# Altium footprint library jetson-orin-baseboard.PcbLib: 71 footprints (part 4 of 5)
Each footprint in its own frame and in the unit in brackets; x right, y up, seen from the top. Pads: shape width x height; smd on the part's side, far side on the other; paste and mask are expansions set on the pad; w line width, h text height; cw(c..) or ccw(c..) is an arc to the next point about the centre after c.
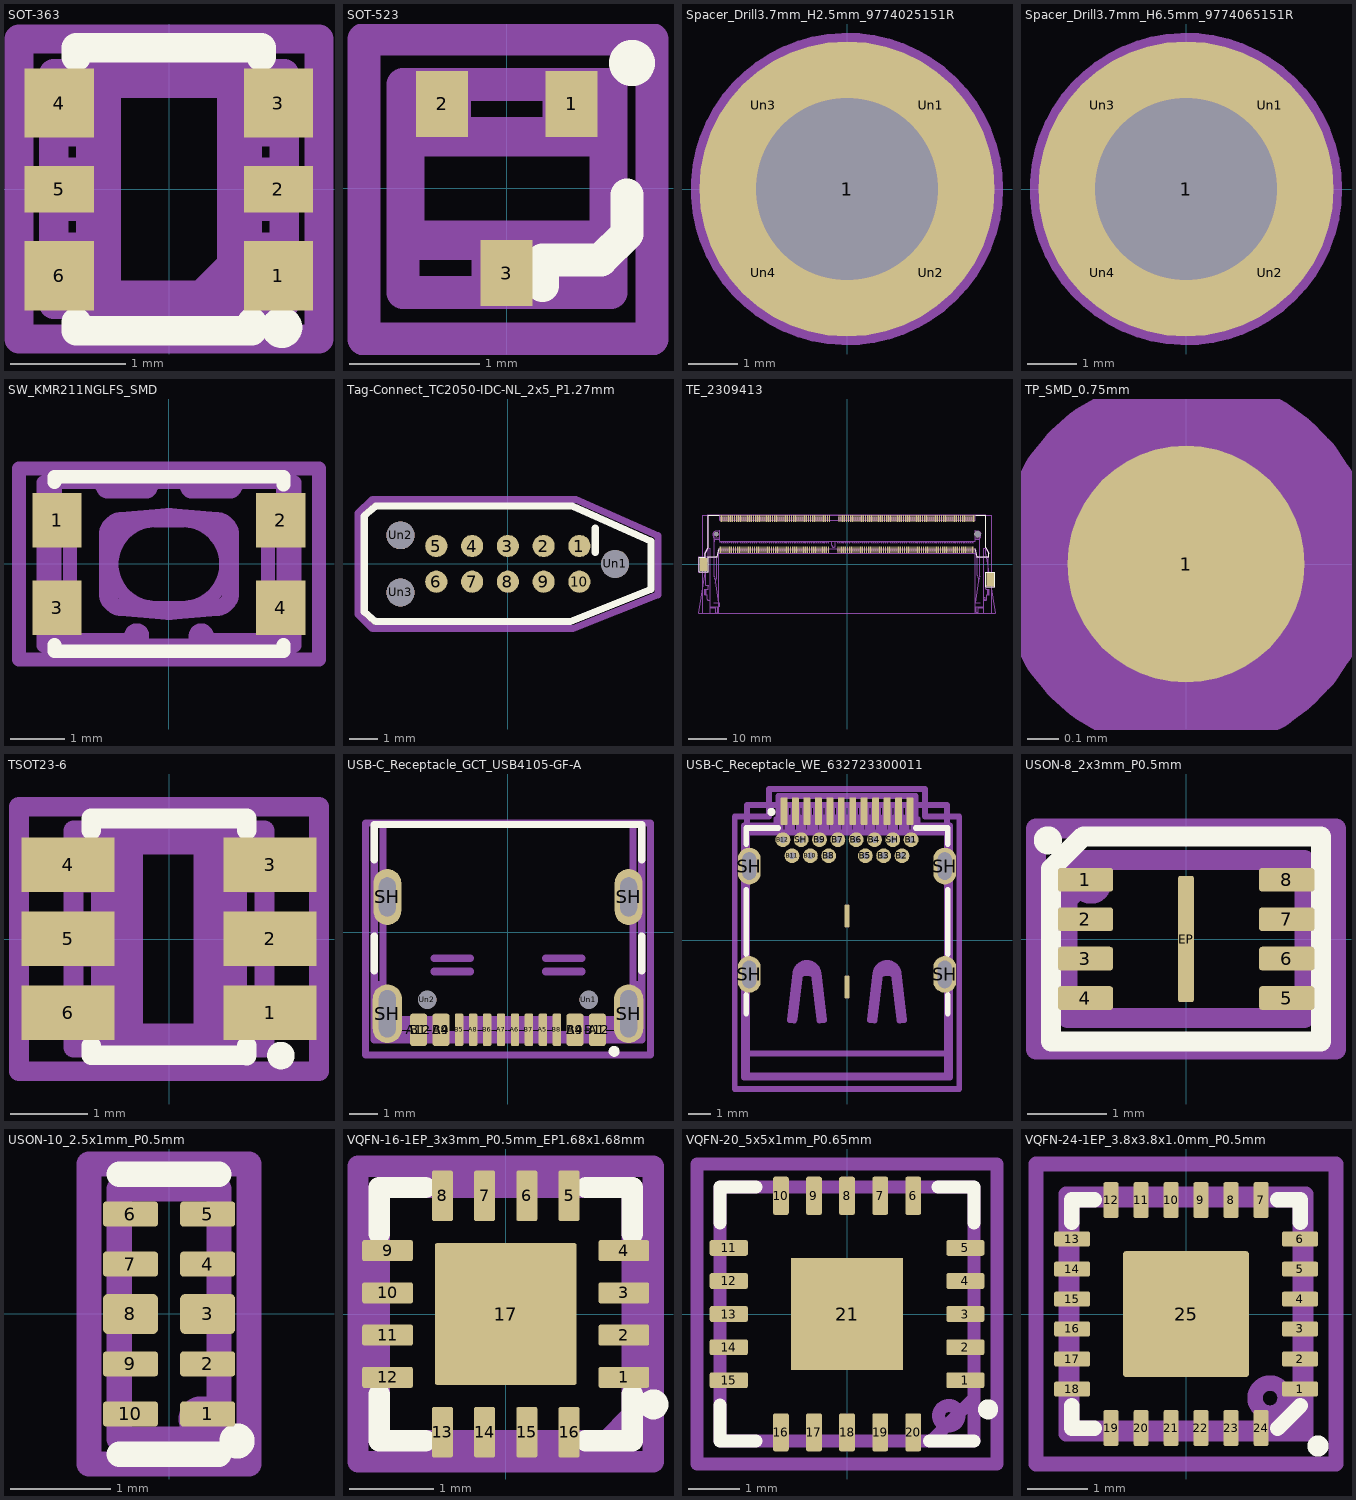
[diagram p3: the footprints below, top view; thin cyan lines are the x and y axes]

## SOT-363 [mm]
pads (6):
  rect 0.6x0.6 smd mask+0: 1(0.948,-0.752) 3(0.948,0.745) 4(-0.951,0.745) 6(-0.951,-0.752)
  rect 0.6x0.4 smd mask+0: 2(0.948,-0.002) 5(-0.951,-0.002)
Top Overlay:
  circle w0.254: c0.978,-1.2 r0.05
  region: 0.94,-1.162 0.924,-1.2 0.94,-1.238 0.978,-1.254 1.016,-1.238 1.032,-1.2 1.016,-1.162 0.978,-1.146
  lines w0.254: -0.803,-1.153 -0.803,-1.228 0.72,-1.228 0.72,-1.153 ; -0.803,1.146 -0.803,1.223 0.8,1.223 0.8,1.146
Mechanical 1:
  lines w0.254: -0.875,-0.804 -0.625,-0.804 -0.625,-0.909 ; -0.875,-0.804 -0.875,-0.502 ; -0.875,-0.804 -0.975,-0.804 -1,-0.804 -1,-0.502 -0.975,-0.502 -0.875,-0.502 ; -0.875,-0.502 -0.625,-0.502 -0.625,-0.152 -0.875,-0.152 ; -0.875,-0.152 -0.875,0.146 ; -0.875,-0.152 -0.975,-0.152 -1,-0.152 -1,0.146 -0.975,0.146 -0.875,0.146 ; -0.875,0.146 -0.625,0.146 -0.625,0.496 -0.875,0.496 ; -0.875,0.496 -0.875,0.798 ; -0.875,0.496 -0.975,0.496 -1,0.496 -1,0.798 -0.975,0.798 -0.875,0.798 ; -0.875,0.798 -0.625,0.798 -0.625,0.903 ; -0.625,-0.909 -0.6,-0.895 ; -0.625,-0.909 -0.532,-1.002 ; -0.625,0.903 -0.532,0.996 ; -0.625,0.903 -0.6,0.889 ; -0.6,-0.895 -0.545,-0.867 ; -0.6,-0.895 -0.6,-0.804 -0.6,-0.502 -0.6,-0.152 -0.6,0.146 -0.6,0.496 -0.6,0.798 -0.6,0.889 ; -0.6,-0.895 -0.519,-0.977 ; -0.6,0.889 -0.519,0.971 ; -0.6,0.889 -0.545,0.861 ; -0.545,-0.867 -0.545,0.861 ; -0.545,-0.867 -0.49,-0.922 ; -0.545,0.861 -0.49,0.916 ; -0.532,-1.002 -0.519,-0.977 ; -0.532,-1.002 0.53,-1.002 ; -0.532,0.996 0.53,0.996 ; -0.532,0.996 -0.519,0.971 ; -0.519,-0.977 -0.49,-0.922 ; -0.519,-0.977 0.517,-0.977 ; -0.519,0.971 0.517,0.971 ; -0.519,0.971 -0.49,0.916 ; -0.49,-0.922 0.488,-0.922 ; -0.49,0.916 0.488,0.916 ; 0.488,-0.922 0.543,-0.867 ; 0.488,-0.922 0.517,-0.977 ; 0.488,0.916 0.543,0.861 ; 0.488,0.916 0.517,0.971 ; 0.517,-0.977 0.598,-0.895 ; 0.517,-0.977 0.53,-1.002 ; 0.517,0.971 0.598,0.889 ; 0.517,0.971 0.53,0.996 ; 0.53,-1.002 0.623,-0.909 ; 0.53,0.996 0.623,0.903 ; 0.543,-0.867 0.598,-0.895 ; 0.543,-0.867 0.543,0.861 ; 0.543,0.861 0.598,0.889 ; 0.598,-0.895 0.623,-0.909 ; 0.598,-0.895 0.598,-0.804 0.598,-0.502 0.598,-0.152 0.598,0.146 0.598,0.496 0.598,0.798 0.598,0.889 ; 0.598,0.889 0.623,0.903 ; 0.623,-0.909 0.623,-0.804 0.873,-0.804 ; 0.623,0.903 0.623,0.798 0.873,0.798 ; 0.873,-0.804 0.973,-0.804 0.998,-0.804 0.998,-0.502 0.973,-0.502 0.873,-0.502 ; 0.873,-0.804 0.873,-0.502 ; 0.873,-0.502 0.623,-0.502 0.623,-0.152 0.873,-0.152 ; 0.873,-0.152 0.973,-0.152 0.998,-0.152 0.998,0.146 0.973,0.146 0.873,0.146 ; 0.873,-0.152 0.873,0.146 ; 0.873,0.146 0.623,0.146 0.623,0.496 0.873,0.496 ; 0.873,0.496 0.973,0.496 0.998,0.496 0.998,0.798 0.973,0.798 0.873,0.798 ; 0.873,0.496 0.873,0.798
Mechanical 5:
  lines w0.254: -1,-1 -1,1 1,1 1,-1 -1,-1
Mechanical 11:
  lines w0.254: 0.1,-1.1 0.68,-0.52 ; -0.68,-1.1 -0.68,1.1 0.68,1.1 0.68,-1.1 -0.68,-1.1
  text "License: Apache-2.0" at -8.815,4.567 h0.7
  text "Author: Antmicro" at -6.985,5.883 h0.7
  text "'.Designator'" at -0.71,3.467 h0.7
Mechanical 16:
  lines w0.254: -1.3,-1.3 -1.3,1.3 1.3,1.3 1.3,-1.3 -1.3,-1.3

## SOT-523 [mm]
pads (3):
  rect 0.4x0.51 smd mask+0: 1(0.5,0.65) 2(-0.498,0.65) 3(0,-0.652)
Top Overlay:
  circle w0.254: c0.965,0.965 r0.05
  region: 0.927,1.003 0.911,0.965 0.927,0.927 0.965,0.911 1.003,0.927 1.019,0.965 1.003,1.003 0.965,1.019
  lines w0.254: 0.277,-0.75 0.277,-0.551 0.725,-0.551 0.927,-0.351 0.927,-0.051
Mechanical 1:
  lines w0.254: -0.787,-0.402 -0.761,-0.375 ; -0.787,-0.402 -0.8,-0.402 -0.8,0.4 -0.787,0.4 ; -0.787,-0.402 -0.143,-0.402 ; -0.787,0.4 -0.598,0.4 ; -0.787,0.4 -0.761,0.373 ; -0.761,-0.375 -0.761,0.373 ; -0.761,-0.375 0.763,-0.375 ; -0.761,0.373 0.763,0.373 ; -0.598,0.4 -0.598,0.524 -0.598,0.539 -0.598,0.563 -0.598,0.8 -0.4,0.8 -0.4,0.563 -0.4,0.539 -0.4,0.524 -0.4,0.4 ; -0.598,0.4 -0.4,0.4 ; -0.4,0.4 0.402,0.4 ; -0.143,-0.402 0.145,-0.402 ; -0.143,-0.402 -0.143,-0.526 -0.143,-0.541 -0.143,-0.565 -0.143,-0.802 0.145,-0.802 0.145,-0.565 0.145,-0.541 0.145,-0.526 0.145,-0.402 ; 0.145,-0.402 0.789,-0.402 ; 0.402,0.4 0.402,0.524 0.402,0.539 0.402,0.563 0.402,0.8 0.6,0.8 0.6,0.563 0.6,0.539 0.6,0.524 0.6,0.4 ; 0.402,0.4 0.6,0.4 ; 0.6,0.4 0.789,0.4 ; 0.763,-0.375 0.763,0.373 ; 0.763,-0.375 0.789,-0.402 ; 0.763,0.373 0.789,0.4 ; 0.789,-0.402 0.802,-0.402 0.802,0.4 0.789,0.4
Mechanical 5:
  lines w0.254: -0.8,-0.802 -0.8,0.8 0.802,0.8 0.802,-0.802 -0.8,-0.802
Mechanical 11:
  circle w0.254: c0.965,0.965 r0.051
  lines w0.254: -0.8,-0.425 -0.8,0.424 0.802,0.424 0.802,-0.276 0.652,-0.425 -0.8,-0.425
  text "'.Designator'" at 0.97,4.357 h0.7
  text "Author: Antmicro" at 0.97,6.741 h0.7
  text "License: Apache-2.0" at 0.97,5.657 h0.7
Mechanical 16:
  lines w0.254: -1.1,-1.16 -1.1,1.15 1.12,1.15 1.12,-1.16 -1.1,-1.16

## Spacer_Drill3.7mm_H2.5mm_9774025151R [mm]
pads (5):
  round 6 hole 3.7 paste-2539.97 mask+0: 1(0,0)
  round 0.62 on Top Paste mask-0.62: Un1(1.7,1.7) Un2(1.7,-1.7) Un3(-1.7,1.7) Un4(-1.7,-1.7)
Top Paste:
  lines w0.2: -2.784,-0.421 -1.95,-0.421 ; -2.784,0.421 -1.95,0.421 ; -0.421,-2.784 -0.421,-1.95 ; -0.421,1.95 -0.421,2.784 ; 0.421,-2.784 0.421,-1.95 ; 0.421,1.95 0.421,2.784 ; 1.95,-0.421 2.784,-0.421 ; 1.95,0.421 2.784,0.421
Mechanical 1:
  circle w0.254: c0,0 r2.55
  circle w0.254: c0,0 r1
Mechanical 5:
  circle w0.254: c0,0 r2.6
Mechanical 11:
  circle w0.254: c0,0 r2.6
  text "Author: Antmicro" at 9.45,8.217 h0.7
  text "'.Designator'" at 9.45,7 h0.7
  text "License: Apache-2.0" at 9.45,9.533 h0.7
Mechanical 16:
  circle w0.254: c0,0 r3.05

## Spacer_Drill3.7mm_H6.5mm_9774065151R [mm]
pads (5):
  round 6 hole 3.7 paste-2539.97 mask+0: 1(0,0)
  round 0.62 on Top Paste mask-0.62: Un1(1.7,1.7) Un2(1.7,-1.7) Un3(-1.7,1.7) Un4(-1.7,-1.7)
Top Paste:
  lines w0.2: -2.784,-0.421 -1.95,-0.421 ; -2.784,0.421 -1.95,0.421 ; -0.421,-2.784 -0.421,-1.95 ; -0.421,1.95 -0.421,2.784 ; 0.421,-2.784 0.421,-1.95 ; 0.421,1.95 0.421,2.784 ; 1.95,-0.421 2.784,-0.421 ; 1.95,0.421 2.784,0.421
Mechanical 1:
  circle w0.254: c0,0 r2.55
  circle w0.254: c0,0 r1
Mechanical 5:
  circle w0.254: c0,0 r2.6
Mechanical 11:
  circle w0.254: c0,0 r2.6
  text "Author: Antmicro" at 9.45,8.217 h0.7
  text "License: Apache-2.0" at 9.45,9.533 h0.7
  text "'.Designator'" at 9.45,7 h0.7
Mechanical 16:
  circle w0.254: c0,0 r3.05

## SW_KMR211NGLFS_SMD [mm]
pads (4):
  rect 0.9x1 smd mask+0: 1(-2.048,0.8) 2(2.05,0.8) 3(-2.048,-0.802) 4(2.05,-0.802)
Top Overlay:
  lines w0.254: -2.1,-1.48 -2.1,-1.601 2.101,-1.601 2.101,-1.48 ; -2.1,1.499 -2.1,1.6 2.101,1.6 ; 2.101,1.459 2.101,1.58
Mechanical 1:
  drawing of 816 lines, arcs and shapes, not listed
Mechanical 5:
  lines w0.254: -2.298,-1.5 -2.298,1.499 2.301,1.499 2.301,-1.5 -2.298,-1.5
Mechanical 10:
  lines w0.254: -2.1,-1.601 -2.1,1.6 2.101,1.6 2.101,-1.601 -2.1,-1.601 ; -0.248,-0.802 cw(c-0.249,-0.001) -0.248,0.8 0.25,0.8 cw(c0.25,-0.001) 0.25,-0.802 -0.248,-0.802
  text "'.Designator'" at -3.15,-4.75 h0.7
  text "Author: Antmicro" at -3.15,-6.017 h0.7
  text "License: Apache-2.0" at -3.15,-7.383 h0.7
Mechanical 15:
  lines w0.254: -2.748,-1.75 -2.748,1.749 2.751,1.749 2.751,-1.75 -2.748,-1.75

## Tag-Connect_TC2050-IDC-NL_2x5_P1.27mm [mil]
pads (13):
  round 31 smd paste-31 mask+0: 1(100,24.96) 2(50,24.96) 3(0,24.96) 4(-49.96,24.96) 5(-99.96,24.96) 6(-99.96,-25) 7(-49.96,-25) 8(0,-25) 9(50,-25) 10(100,-25)
  round 39 hole 39 paste-99999 mask+0: Un1(150,0) Un2(-149.96,39.96) Un3(-149.96,-40)
Top Overlay:
  lines w10: 122.09,15.75 122.09,49.96 ; -200.79,-66.93 -185.04,-80.71 86.61,-80.71 200,-35.43 200,31.5 90.55,80.67 -185.04,80.67 -200.79,66.93 -200.79,-66.93
Mechanical 11:
  text "License: Apache-2.0" at 239.09,357.57 h27.56
  text "'.Designator'" at 239.09,257.83 h27.56
  text "Author: Antmicro" at 239.09,305.73 h27.56
Mechanical 16:
  lines w10: -209.45,-70.87 -188.98,-90.55 90.55,-90.55 209.84,-43.31 209.84,39.37 94.49,90.16 -188.98,90.16 -209.45,70.87 -209.45,-70.87
Mechanical 17:
  text "Z-KEEPOUT 6.35mm" at 83.17,120.57 h13.78

## TE_2309413 [mm]
pads (264):
  rect 0.3x1.75 smd mask+0: 1(33.369,12.026) 2(33.119,3.826) 3(32.869,12.026) 4(32.619,3.826) 5(32.369,12.026) 6(32.119,3.826) 7(31.87,12.026) 8(31.62,3.826) 9(31.37,12.026) 10(31.12,3.826) 11(30.87,12.026) 12(30.62,3.826) 13(30.37,12.026) 14(30.12,3.826) 15(29.87,12.026) 16(29.62,3.826) 17(29.37,12.026) 18(29.12,3.826) 19(28.87,12.026) 20(28.62,3.826) 21(28.37,12.026) 22(28.12,3.826) 23(27.87,12.026) 24(27.62,3.826) 25(27.37,12.026) 26(27.12,3.826) 27(26.87,12.026) 28(26.62,3.826) 29(26.37,12.026) 30(26.12,3.826) 31(25.87,12.026) 32(25.62,3.826) 33(25.37,12.026) 34(25.12,3.826) 35(24.87,12.026) 36(24.62,3.826) 37(24.37,12.026) 38(24.12,3.826) 39(23.87,12.026) 40(23.62,3.826) 41(23.37,12.026) 42(23.12,3.826) 43(22.87,12.026) 44(22.62,3.826) 45(22.37,12.026) 46(22.12,3.826) 47(21.87,12.026) 48(21.62,3.826) 49(21.37,12.026) 50(21.12,3.826) 51(20.87,12.026) 52(20.62,3.826) 53(20.37,12.026) 54(20.12,3.826) 55(19.87,12.026) 56(19.62,3.826) 57(19.37,12.026) 58(19.12,3.826) 59(18.87,12.026) 60(18.62,3.826) 61(18.37,12.026) 62(18.12,3.826) 63(17.87,12.026) 64(17.62,3.826) 65(17.37,12.026) 66(17.12,3.826) 67(16.87,12.026) 68(16.62,3.826) 69(16.37,12.026) 70(16.12,3.826) 71(15.87,12.026) 72(15.62,3.826) 73(15.37,12.026) 74(15.12,3.826) 75(14.87,12.026) 76(14.62,3.826) 77(14.37,12.026) 78(14.12,3.826) 79(13.87,12.026) 80(13.62,3.826) 81(13.37,12.026) 82(13.12,3.826) 83(12.87,12.026) 84(12.62,3.826) 85(12.37,12.026) 86(12.12,3.826) 87(11.87,12.026) 88(11.62,3.826) 89(11.37,12.026) 90(11.12,3.826) 91(10.87,12.026) 92(10.62,3.826) 93(10.37,12.026) 94(10.12,3.826) 95(9.87,12.026) 96(9.62,3.826) 97(9.37,12.026) 98(9.12,3.826) 99(8.87,12.026) 100(8.62,3.826) 101(8.37,12.026) 102(8.12,3.826) 103(7.869,12.026) 104(7.619,3.826) 105(7.369,12.026) 106(7.119,3.826) 107(6.869,12.026) 108(6.619,3.826) 109(6.369,12.026) 110(6.119,3.826) 111(5.869,12.026) 112(5.619,3.826) 113(5.369,12.026) 114(5.12,3.826) 115(4.87,12.026) 116(4.62,3.826) 117(4.37,12.026) 118(4.12,3.826) 119(3.87,12.026) 120(3.62,3.826) 121(3.37,12.026) 122(3.12,3.826) 123(2.87,12.026) 124(2.62,3.826) 125(2.37,12.026) 126(2.12,3.826) 127(1.87,12.026) 128(1.62,3.826) 129(1.37,12.026) 130(1.12,3.826) 131(0.869,12.026) 132(0.619,3.826) 133(0.369,12.026) 134(0.119,3.826) 135(-0.131,12.026) 136(-0.38,3.826) 137(-0.63,12.026) 138(-0.88,3.826) 139(-1.131,12.026) 140(-1.381,3.826) 141(-1.631,12.026) 142(-1.881,3.826) 143(-2.13,12.026) 144(-2.38,3.826) 145(-4.63,12.026) 146(-4.88,3.826) 147(-5.13,12.026) 148(-5.38,3.826) 149(-5.63,12.026) 150(-5.88,3.826) 151(-6.13,12.026) 152(-6.38,3.826) 153(-6.63,12.026) 154(-6.88,3.826) 155(-7.13,12.026) 156(-7.38,3.826) 157(-7.63,12.026) 158(-7.88,3.826) 159(-8.131,12.026) 160(-8.381,3.826) 161(-8.631,12.026) 162(-8.881,3.826) 163(-9.131,12.026) 164(-9.381,3.826) 165(-9.631,12.026) 166(-9.881,3.826) 167(-10.131,12.026) 168(-10.381,3.826) 169(-10.631,12.026) 170(-10.881,3.826) 171(-11.131,12.026) 172(-11.381,3.826) 173(-11.631,12.026) 174(-11.881,3.826) 175(-12.131,12.026) 176(-12.381,3.826) 177(-12.631,12.026) 178(-12.881,3.826) 179(-13.131,12.026) 180(-13.381,3.826) 181(-13.631,12.026) 182(-13.881,3.826) 183(-14.131,12.026) 184(-14.381,3.826) 185(-14.631,12.026) 186(-14.881,3.826) 187(-15.131,12.026) 188(-15.381,3.826) 189(-15.631,12.026) 190(-15.881,3.826) 191(-16.13,12.026) 192(-16.38,3.826) 193(-16.63,12.026) 194(-16.88,3.826) 195(-17.13,12.026) 196(-17.38,3.826) 197(-17.63,12.026) 198(-17.88,3.826) 199(-18.13,12.026) 200(-18.38,3.826) 201(-18.63,12.026) 202(-18.88,3.826) 203(-19.13,12.026) 204(-19.38,3.826) 205(-19.63,12.026) 206(-19.88,3.826) 207(-20.13,12.026) 208(-20.38,3.826) 209(-20.63,12.026) 210(-20.88,3.826) 211(-21.13,12.026) 212(-21.38,3.826) 213(-21.63,12.026) 214(-21.88,3.826) 215(-22.13,12.026) 216(-22.38,3.826) 217(-22.63,12.026) 218(-22.88,3.826) 219(-23.13,12.026) 220(-23.38,3.826) 221(-23.63,12.026) 222(-23.88,3.826) 223(-24.13,12.026) 224(-24.38,3.826) 225(-24.63,12.026) 226(-24.88,3.826) 227(-25.13,12.026) 228(-25.38,3.826) 229(-25.63,12.026) 230(-25.88,3.826) 231(-26.13,12.026) 232(-26.38,3.826) 233(-26.63,12.026) 234(-26.88,3.826) 235(-27.13,12.026) 236(-27.38,3.826) 237(-27.63,12.026) 238(-27.88,3.826) 239(-28.13,12.026) 240(-28.38,3.826) 241(-28.63,12.026) 242(-28.88,3.826) 243(-29.13,12.026) 244(-29.38,3.826) 245(-29.63,12.026) 246(-29.88,3.826) 247(-30.13,12.026) 248(-30.38,3.826) 249(-30.63,12.026) 250(-30.88,3.826) 251(-31.13,12.026) 252(-31.38,3.826) 253(-31.63,12.026) 254(-31.88,3.826) 255(-32.131,12.026) 256(-32.381,3.826) 257(-32.631,12.026) 258(-32.881,3.826) 259(-33.131,12.026) 260(-33.381,3.826)
  rect 2x3.5 smd mask+0: 261(-37.756,-0.073) 262(37.744,-4.073)
  round 1.15 hole 1.15 paste-2539.97 mask+0: Un1(-34.406,7.926)
  round 1.65 hole 1.65 paste-2539.97 mask+0: Un2(34.395,7.926)
Top Overlay:
  lines w0.254: -33.705,4.026 -34.205,1.926 -36.606,1.926 -36.606,-1.973 -38.906,-1.973 -38.906,1.827 -37.305,1.827 -37.305,2.927 -36.506,4.276 -36.506,12.926 -33.601,12.926 ; 33.694,4.026 34.194,1.926 37.295,1.926 37.295,2.927 36.494,4.276 36.494,12.926 33.84,12.926 ; 36.594,-5.974 36.594,-2.173 38.895,-2.173 38.895,-5.974 36.594,-5.974
Mechanical 1:
  drawing of 3516 lines, arcs and shapes, not listed
Mechanical 5:
  lines w0.254: -38.051,-12.925 -38.051,12.926 38.048,12.926 38.048,-12.925 -38.051,-12.925
Mechanical 10:
  lines w0.254: -39.006,-12.925 -33.756,-12.925 -33.756,4.026 33.744,4.026 33.744,-12.925 38.994,-12.925 36.494,2.626 36.494,12.926 -36.506,12.926 -36.506,2.626 -39.006,-12.925
  text "License: Apache-2.0" at -38.15,-18.633 h0.7
  text "'.Designator'" at -38.15,-16 h0.7
  text "Author: Antmicro" at -38.15,-17.267 h0.7
Mechanical 15:
  lines w0.254: -39.01,-2.06 -39.01,1.93 -37.42,1.93 -37.42,3.04 -36.61,4.33 -36.61,13.04 36.59,13.04 36.59,4.33 37.38,2.98 37.38,1.84 34.09,1.84 33.84,2.84 -33.86,2.84 -34.11,1.84 -36.51,1.84 -36.51,-2.06 -39.01,-2.06 ; 36.59,-5.96 36.59,-2.16 38.88,-2.16 38.88,-5.96 36.59,-5.96

## TP_SMD_0.75mm [mm]
pads (1):
  round 0.75 smd paste-0.75 mask+0: 1(0,0)
Mechanical 11:
  text "License: Apache-2.0" at 0.25,5.734 h0.7
  text "Author: Antmicro" at 0.25,4.418 h0.7
  text "'.Designator'" at 0.25,3.2 h0.7
Mechanical 16:
  circle w0.254: c0,0 r0.475

## TSOT23-6 [mm]
pads (6):
  rect 1.2x0.7 smd mask+0: 1(1.301,-0.947) 2(1.301,0.004) 3(1.301,0.954) 4(-1.299,0.954) 5(-1.299,0.004) 6(-1.299,-0.947)
Top Overlay:
  circle w0.254: c1.44,-1.5 r0.05
  region: 1.402,-1.462 1.386,-1.5 1.402,-1.538 1.44,-1.554 1.478,-1.538 1.494,-1.5 1.478,-1.462 1.44,-1.446
  lines w0.254: -1,-1.375 -1,-1.497 1,-1.5 1,-1.375 ; -1,1.4 -1,1.55 1,1.55 1,1.4
Mechanical 1:
  lines w0.254: -0.644,-1.182 -0.644,-1.397 ; -0.644,-0.724 -0.644,-0.229 ; -0.644,0.228 -0.644,0.723 ; -0.644,1.181 -0.644,1.396 ; 0.626,-1.182 0.626,-1.397 ; 0.626,-0.724 0.626,-0.229 ; 0.626,0.228 0.626,0.723 ; 0.626,1.181 0.626,1.396 ; -0.949,-1.182 -0.67,-1.182 -0.635,-1.182 -0.635,-0.724 -0.67,-0.724 -0.949,-0.724 ; -0.949,-1.182 -1.025,-1.182 -1.229,-1.182 -1.229,-0.724 -1.025,-0.724 -0.949,-0.724 ; -0.949,-1.182 -0.949,-0.724 ; -0.949,-0.229 -0.67,-0.229 -0.635,-0.229 -0.635,0.228 -0.67,0.228 -0.949,0.228 ; -0.949,-0.229 -1.025,-0.229 -1.229,-0.229 -1.229,0.228 -1.025,0.228 -0.949,0.228 ; -0.949,-0.229 -0.949,0.228 ; -0.949,0.723 -0.67,0.723 -0.635,0.723 -0.635,1.181 -0.67,1.181 -0.949,1.181 ; -0.949,0.723 -1.025,0.723 -1.229,0.723 -1.229,1.181 -1.025,1.181 -0.949,1.181 ; -0.949,0.723 -0.949,1.181 ; -0.644,-1.397 0.626,-1.397 ; -0.644,-1.397 -0.46,-1.213 ; -0.644,1.396 0.626,1.396 ; -0.644,1.396 -0.46,1.212 ; -0.46,-1.213 0.441,-1.213 ; -0.46,-1.213 -0.46,1.212 ; -0.46,1.212 0.441,1.212 ; 0.441,-1.213 0.626,-1.397 ; 0.441,-1.213 0.441,1.212 ; 0.441,1.212 0.626,1.396 ; 0.918,-1.182 0.994,-1.182 1.197,-1.182 1.197,-0.724 0.994,-0.724 0.918,-0.724 ; 0.918,-1.182 0.638,-1.182 0.616,-1.182 0.616,-0.724 0.638,-0.724 0.918,-0.724 ; 0.918,-1.182 0.918,-0.724 ; 0.918,-0.229 0.994,-0.229 1.197,-0.229 1.197,0.228 0.994,0.228 0.918,0.228 ; 0.918,-0.229 0.638,-0.229 0.616,-0.229 0.616,0.228 0.638,0.228 0.918,0.228 ; 0.918,-0.229 0.918,0.228 ; 0.918,0.723 0.994,0.723 1.197,0.723 1.197,1.181 0.994,1.181 0.918,1.181 ; 0.918,0.723 0.638,0.723 0.616,0.723 0.616,1.181 0.638,1.181 0.918,1.181 ; 0.918,0.723 0.918,1.181
Mechanical 5:
  lines w0.254: -1.23,-1.397 -1.23,1.396 1.23,1.396 1.23,-1.397 -1.23,-1.397
Mechanical 11:
  lines w0.254: 0.45,-1.521 0.876,-1.096 ; -0.875,-1.525 -0.875,1.528 0.875,1.528 0.875,-1.525 -0.875,-1.525
  text "'.Designator'" at 1.78,4.3 h0.7
  text "License: Apache-2.0" at 1.78,6.832 h0.7
  text "Author: Antmicro" at 1.78,5.517 h0.7
Mechanical 16:
  lines w0.254: -1.93,-1.7 -1.93,1.7 1.93,1.7 1.93,-1.7 -1.93,-1.7

## USB-C_Receptacle_GCT_USB4105-GF-A [mm]
pads (22):
  rrect25% 0.6x1.15 smd mask+0: A1(3.202,-3.5) A4(2.4,-3.5) A9(-2.398,-3.5) A12(-3.2,-3.5) B1(-3.2,-3.5) B4(-2.398,-3.5) B9(2.4,-3.5) B12(3.202,-3.5)
  rrect25% 0.3x1.15 smd mask+0: A5(1.25,-3.5) A6(0.25,-3.5) A7(-0.248,-3.5) A8(-1.249,-3.5) B5(-1.749,-3.5) B6(-0.748,-3.5) B7(0.75,-3.5) B8(1.75,-3.5)
  rrect100% 1.05x2.1 hole 1.7 slot 0.6 at 0 deg paste-2539.97 mask+0: SH(-4.32,-2.926) SH(4.321,-2.926)
  rrect100% 1x2 hole 1.4 slot 0.6 at 0 deg paste-2539.97 mask+0: SH(-4.32,1.255) SH(4.321,1.255)
  round 0.65 hole 0.65 paste-2539.97 mask+0: Un1(2.891,-2.426) Un2(-2.89,-2.426)
Top Overlay:
  circle w0.254: c3.8,-4.271 r0.071
  region: 3.746,-4.217 3.723,-4.271 3.746,-4.325 3.8,-4.347 3.854,-4.325 3.877,-4.271 3.854,-4.217 3.8,-4.194
  lines w0.254: -4.788,-1.395 -4.788,-0.145 ; -4.788,2.575 -4.788,3.854 4.79,3.854 4.79,2.575 ; 4.79,-1.395 4.79,-0.145
Mechanical 1:
  drawing of 547 lines, arcs and shapes, not listed
Mechanical 5:
  lines w0.254: -4.788,-3.856 -4.788,3.854 4.79,3.854 4.79,-3.856 -4.788,-3.856
Mechanical 11:
  lines w0.254: 4.702,3.854 -4.788,3.854 ; -4.788,3.854 -4.788,-3.676 4.79,-3.676 4.79,3.854 -4.788,3.854
  text "'.Designator'" at 4.64,7.353 h0.7
  text "License: Apache-2.0" at 4.64,9.488 h0.7
  text "Author: Antmicro" at 4.64,8.37 h0.7
  text "PCB-EDGE" at 4.64,6.353 h0.7
Mechanical 16:
  lines w0.254: -5.1,-4.4 -5.1,3.9 5.1,3.9 5.1,-4.4 -5.1,-4.4

## USB-C_Receptacle_WE_632723300011 [mm]
pads (32):
  rrect25% 0.3x1.2 smd mask+0: A1(-2.75,5.635) A2(-2.25,5.635) A3(-1.75,5.635) A4(-1.25,5.635) A5(-0.75,5.635) A6(-0.25,5.635) A7(0.25,5.635) A8(0.75,5.635) A9(1.25,5.635) A10(1.75,5.635) A11(2.25,5.635) A12(2.75,5.635)
  round 0.65 hole 0.3 paste-2539.97 mask+0: B1(2.8,4.385) B2(2.4,3.685) B3(1.6,3.685) B4(1.2,4.385) B5(0.8,3.685) B6(0.4,4.385) B7(-0.4,4.385) B8(-0.8,3.685) B9(-1.2,4.385) B10(-1.6,3.685) B11(-2.4,3.685) B12(-2.8,4.385) SH(-2,4.385) SH(2,4.385)
  rrect100% 1x1.6 hole 1.2 slot 0.6 at 0 deg paste-2539.97 mask+0: SH(-4.27,-1.495) SH(-4.27,3.235) SH(4.27,-1.495) SH(4.27,3.235)
  rrect25% 0.2x1 smd mask+0: Un1(0,1.055) Un2(0,-2.045)
Top Overlay:
  circle w0.254: c-3.299,5.598 r0.05
  region: -3.261,5.636 -3.245,5.598 -3.261,5.56 -3.299,5.544 -3.337,5.56 -3.353,5.598 -3.337,5.636 -3.299,5.652
  lines w0.254: -4.4,-3.201 -4.4,-2.4 ; -4.4,-0.6 -4.4,2.2 ; -4.4,4.2 -4.4,4.899 -2.999,4.899 ; 3,4.899 4.401,4.899 4.401,4.2 ; 4.401,-3.201 4.401,-2.4 ; 4.401,-0.6 4.401,2.2
Mechanical 1:
  drawing of 752 lines, arcs and shapes, not listed
Mechanical 5:
  lines w0.254: -4.371,-5.897 -4.371,5.896 4.371,5.896 4.371,-5.897 -4.371,-5.897
Mechanical 10:
  lines w0.254: -2.979,6.158 -2.859,6.278 ; -4.499,-6.001 -4.499,5 -2.999,5 -2.999,6.3 3,6.3 3,5 4.499,5 4.499,-6.001 -4.499,-6.001
  text "Author: Antmicro" at -5.422,-11.412 h0.7
  text "License: Apache-2.0" at -5.422,-9.128 h0.7
  text "'.Designator'" at -5.422,-10.195 h0.7
Mechanical 15:
  lines w0.254: -4.9,-6.5 -4.9,5.4 -3.4,5.4 -3.4,6.6 3.4,6.6 3.4,5.4 4.9,5.4 4.9,-6.5 -4.9,-6.5
Mechanical 18:
  lines w0.254: -4.499,-4.945 4.499,-4.945
  text "PCB edge" at -2.69,-5.387 h0.7

## USON-8_2x3mm_P0.5mm [mm]
pads (9):
  rrect25% 0.7x0.3 smd mask+0: 1(-1.273,0.75) 2(-1.273,0.25) 3(-1.273,-0.248) 4(-1.273,-0.748) 5(1.276,-0.748) 6(1.276,-0.248) 7(1.276,0.25) 8(1.276,0.75)
  rrect25% 0.2x1.6 smd mask+0: EP(0,0)
Top Overlay:
  circle w0.254: c-1.75,1.25 r0.05
  region: -1.712,1.288 -1.696,1.25 -1.712,1.212 -1.75,1.196 -1.788,1.212 -1.804,1.25 -1.788,1.288 -1.75,1.304
  lines w0.254: -1.71,-1.3 1.71,-1.301 1.71,1.301 -1.3,1.301 -1.71,0.89 -1.71,-1.3
Mechanical 1:
  drawing of 260 lines, arcs and shapes, not listed
Mechanical 5:
  lines w0.254: -1.5,-1 1.5,-1 1.5,1 -1.5,1 -1.5,-1
Mechanical 10:
  lines w0.254: -1.499,0.5 -0.998,1 ; -1.5,-1 -1.5,1 1.5,1 1.5,-1 -1.5,-1
  text "License: Apache-2.0" at -2.05,-7.732 h0.7
  text "Author: Antmicro" at -2.05,-6.616 h0.7
  text "'.Designator'" at -2.05,-5.599 h0.7
Mechanical 15:
  lines w0.254: -1.9,-1.4 1.9,-1.4 1.9,1.4 -1.9,1.4 -1.9,-1.4

## USON-10_2.5x1mm_P0.5mm [mm]
pads (10):
  rrect25% 0.55x0.25 smd mask+0: 1(0.387,-1) 2(0.387,-0.5) 4(0.387,0.498) 5(0.387,0.998) 6(-0.385,0.998) 7(-0.385,0.498) 9(-0.385,-0.5) 10(-0.385,-1)
  rrect25% 0.55x0.4 smd mask+0: 3(0.387,0) 8(-0.385,0)
Top Overlay:
  circle w0.254: c0.68,-1.27 r0.05
  region: 0.642,-1.232 0.626,-1.27 0.642,-1.308 0.68,-1.324 0.718,-1.308 0.734,-1.27 0.718,-1.232 0.68,-1.216
  lines w0.254: -0.498,-1.401 0.5,-1.401 ; -0.498,1.398 0.5,1.398
Mechanical 1:
  drawing of 260 lines, arcs and shapes, not listed
Mechanical 5:
  lines w0.254: -0.498,-1.25 -0.498,1.249 0.5,1.249 0.5,-1.25 -0.498,-1.25
Mechanical 11:
  lines w0.254: -0.498,-1.25 -0.498,1.249 0.5,1.249 0.5,-1 0.25,-1.25 -0.498,-1.25
  text "License: Apache-2.0" at 0.652,7.533 h0.7
  text "Author: Antmicro" at 0.652,6.217 h0.7
  text "'.Designator'" at 0.652,4.998 h0.7
Mechanical 16:
  lines w0.254: -0.8,-1.5 -0.8,1.499 0.8,1.499 0.8,-1.5 -0.8,-1.5

## VQFN-16-1EP_3x3mm_P0.5mm_EP1.68x1.68mm [mm]
pads (17):
  rrect20% 0.6x0.25 smd mask+0: 1(1.4,-0.75) 2(1.4,-0.25) 3(1.4,0.25) 4(1.4,0.75) 9(-1.4,0.75) 10(-1.4,0.25) 11(-1.4,-0.25) 12(-1.4,-0.75)
  rrect20% 0.25x0.6 smd mask+0: 5(0.75,1.4) 6(0.25,1.4) 7(-0.25,1.4) 8(-0.75,1.4) 13(-0.75,-1.4) 14(-0.25,-1.4) 15(0.25,-1.4) 16(0.75,-1.4)
  rrect3% 1.68x1.68 smd mask+0: 17(0,0)
Top Overlay:
  circle w0.254: c1.75,-1.071 r0.05
  region: 1.712,-1.032 1.696,-1.071 1.712,-1.109 1.75,-1.125 1.788,-1.109 1.804,-1.071 1.788,-1.032 1.75,-1.017
  lines w0.254: -1.5,-0.95 -1.499,-1.5 -0.95,-1.5 ; -1.499,0.95 -1.499,1.499 -0.95,1.499 ; 0.95,-1.501 1.5,-1.5 1.5,-0.951 ; 0.951,1.499 1.5,1.499 1.5,0.95
Mechanical 1:
  lines w0.254: -1.499,-1.5 1.5,-1.5 1.5,1.499 -1.499,1.499 -1.499,-1.5
Mechanical 5:
  lines w0.254: -1.499,-1.5 -1.499,1.499 1.5,1.499 1.5,-1.5 -1.499,-1.5
Mechanical 11:
  lines w0.254: -1.499,-1.5 1.2,-1.5 1.5,-1.2 1.5,1.499 -1.499,1.499 -1.499,-1.5
  text "'.Designator'" at 1.751,5.498 h0.7
  text "License: Apache-2.0" at 1.751,8.033 h0.7
  text "Author: Antmicro" at 1.751,6.717 h0.7
Mechanical 16:
  lines w0.254: -1.75,-1.75 -1.75,1.75 1.75,1.75 1.75,-1.75 -1.75,-1.75

## VQFN-20_5x5x1mm_P0.65mm [mm]
pads (21):
  rrect25% 0.75x0.31 smd mask+0: 1(2.327,-1.301) 2(2.327,-0.652) 3(2.327,0) 4(2.327,0.65) 5(2.327,1.3) 11(-2.325,1.3) 12(-2.325,0.65) 13(-2.325,0) 14(-2.325,-0.652) 15(-2.325,-1.301)
  rrect25% 0.31x0.75 smd mask+0: 6(1.301,2.325) 7(0.652,2.325) 8(0,2.325) 9(-0.65,2.325) 10(-1.3,2.325) 16(-1.3,-2.327) 17(-0.65,-2.327) 18(0,-2.327) 19(0.652,-2.327) 20(1.301,-2.327)
  rect 2.2x2.2 smd paste-2.2 mask+0: 21(0,0)
Top Overlay:
  circle w0.254: c2.775,-1.875 r0.071
  region: 2.721,-1.821 2.698,-1.875 2.721,-1.929 2.775,-1.952 2.829,-1.929 2.852,-1.875 2.829,-1.821 2.775,-1.798
  lines w0.254: -2.499,-1.79 -2.499,-2.5 -1.789,-2.5 ; -2.499,1.789 -2.499,2.499 -1.789,2.499 ; 1.625,-2.5 2.5,-2.5 ; 1.79,2.499 2.5,2.499 2.5,1.789
Top Paste:
  region: -1.08,0.088 -0.108,0.088 -0.108,1.08 -1.08,1.08
  region: 0.11,0.088 1.081,0.088 1.081,1.08 0.11,1.08
  region: -1.08,-1.081 -0.108,-1.081 -0.108,-0.09 -1.08,-0.09
  region: 0.11,-1.081 1.081,-1.081 1.081,-0.09 0.11,-0.09
Mechanical 1:
  drawing of 260 lines, arcs and shapes, not listed
Mechanical 5:
  lines w0.254: -2.499,-2.5 -2.499,2.499 2.5,2.499 2.5,-2.5 -2.499,-2.5
Mechanical 11:
  lines w0.254: -2.499,-2.5 -2.499,2.499 2.5,2.499 2.5,-1.65 1.65,-2.5 -2.499,-2.5
  text "Author: Antmicro" at 2.35,7.401 h0.7
  text "License: Apache-2.0" at 2.35,8.517 h0.7
  text "'.Designator'" at 2.35,6.384 h0.7
Mechanical 16:
  lines w0.254: -2.95,-2.95 -2.95,2.95 2.95,2.95 2.95,-2.95 -2.95,-2.95

## VQFN-24-1EP_3.8x3.8x1.0mm_P0.5mm [mm]
pads (25):
  rrect25% 0.6x0.25 smd mask+0: 1(1.901,-1.25) 2(1.901,-0.75) 3(1.901,-0.25) 4(1.901,0.248) 5(1.901,0.748) 6(1.901,1.249) 13(-1.898,1.249) 14(-1.898,0.748) 15(-1.898,0.248) 16(-1.898,-0.25) 17(-1.898,-0.75) 18(-1.898,-1.252)
  rrect25% 0.25x0.6 smd mask+0: 7(1.252,1.898) 8(0.751,1.898) 9(0.25,1.898) 10(-0.248,1.898) 11(-0.748,1.898) 12(-1.249,1.898) 19(-1.249,-1.901) 20(-0.748,-1.901) 21(-0.248,-1.901) 22(0.25,-1.901) 23(0.75,-1.901) 24(1.252,-1.901)
  rrect5% 2.1x2.1 smd mask+0: 25(0,-0.001)
Top Overlay:
  circle w0.254: c2.2,-2.2 r0.05
  region: 2.162,-2.162 2.146,-2.2 2.162,-2.238 2.2,-2.254 2.238,-2.238 2.254,-2.2 2.238,-2.162 2.2,-2.146
  lines w0.254: -1.904,-1.524 -1.904,-1.905 -1.523,-1.905 ; -1.904,1.523 -1.904,1.904 -1.523,1.904 ; 1.524,-1.905 1.905,-1.524 ; 1.524,1.904 1.905,1.904 1.905,1.523
Mechanical 1:
  lines w0.254: -1.999,-2 2,-2 2,1.999 -1.999,1.999 -1.999,-2 ; 1.151,-1.418 1.154,-1.434 1.156,-1.45 1.16,-1.466 1.164,-1.482 1.17,-1.496 1.176,-1.512 1.184,-1.526 1.194,-1.539 1.202,-1.553 1.212,-1.565 1.224,-1.577 1.236,-1.589 1.248,-1.599 1.262,-1.609 1.276,-1.617 1.291,-1.625 1.305,-1.633 1.321,-1.637 1.337,-1.643 1.353,-1.647 1.369,-1.649 1.385,-1.651 1.401,-1.651 1.418,-1.651 1.434,-1.649 1.45,-1.647 1.466,-1.643 1.48,-1.637 1.496,-1.633 1.512,-1.625 1.526,-1.617 1.534,-1.613 1.541,-1.609 1.547,-1.603 1.553,-1.599 1.561,-1.593 1.567,-1.589 1.573,-1.583 1.579,-1.577 1.583,-1.571 1.589,-1.565 1.595,-1.559 1.599,-1.553 1.605,-1.547 1.609,-1.539 1.613,-1.532 1.617,-1.526 1.621,-1.518 1.625,-1.512 1.629,-1.504 1.631,-1.496 1.635,-1.49 1.637,-1.482 1.641,-1.474 1.643,-1.466 1.645,-1.458 1.647,-1.45 1.647,-1.442 1.649,-1.434 1.649,-1.426 1.651,-1.418 1.651,-1.41 1.651,-1.401 1.651,-1.385 1.649,-1.367 1.647,-1.351 1.643,-1.335 1.637,-1.321 1.631,-1.305 1.625,-1.291 1.617,-1.276 1.609,-1.262 1.599,-1.25 1.589,-1.236 1.579,-1.224 1.567,-1.214 1.553,-1.202 1.541,-1.194 1.526,-1.184 1.512,-1.176 1.496,-1.17 1.48,-1.164 1.466,-1.16 1.45,-1.156 1.434,-1.154 1.418,-1.151 1.401,-1.151 1.385,-1.151 1.369,-1.154 1.353,-1.156 1.337,-1.16 1.321,-1.164 1.305,-1.17 1.291,-1.176 1.276,-1.184 1.268,-1.188 1.262,-1.194 1.256,-1.198 1.248,-1.202 1.242,-1.208 1.236,-1.214 1.23,-1.218 1.224,-1.224 1.218,-1.23 1.212,-1.236 1.208,-1.242 1.202,-1.25 1.198,-1.256 1.194,-1.262 1.188,-1.27 1.184,-1.276 1.18,-1.283 1.176,-1.291 1.174,-1.297 1.17,-1.305 1.168,-1.313 1.164,-1.321 1.162,-1.327 1.16,-1.335 1.158,-1.343 1.156,-1.351 1.154,-1.359 1.154,-1.367 1.153,-1.377 1.151,-1.385 1.151,-1.393 1.151,-1.401 1.151,-1.418
Mechanical 5:
  lines w0.254: -1.999,-2 -1.999,1.999 2,1.999 2,-2 -1.999,-2
Mechanical 11:
  lines w0.254: 1.524,-1.905 1.905,-1.524 ; -1.904,-1.905 1.905,-1.905 1.905,1.904 -1.904,1.904 -1.904,-1.905
  text "License: Apache-2.0" at 2.136,7.953 h0.7
  text "Author: Antmicro" at 2.136,6.636 h0.7
  text "'.Designator'" at 2.136,5.419 h0.7
Mechanical 16:
  lines w0.254: -2.5,-2.5 -2.5,2.5 2.5,2.5 2.5,-2.5 -2.5,-2.5